# Altium schematic symbol library Header_1x10.SchLib: 1 symbol
Pins are listed as number, name and electrical type; pins without a type are passive.

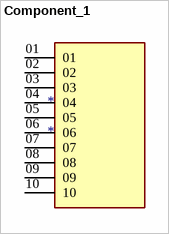
[diagram p0: symbol Component_1]

## Component_1
designator *
footprint PCBComponent_1
pins: 01, 02, 03, 04, 05, 06, 07, 08, 09, 10